# Altium footprint library IC_TPD4EUSB30DQAR.PcbLib: 1 footprints
Each footprint in its own frame and in the unit in brackets; x right, y up, seen from the top. Pads: shape width x height; smd on the part's side, far side on the other; paste and mask are expansions set on the pad; w line width, h text height; cw(c..) or ccw(c..) is an arc to the next point about the centre after c.
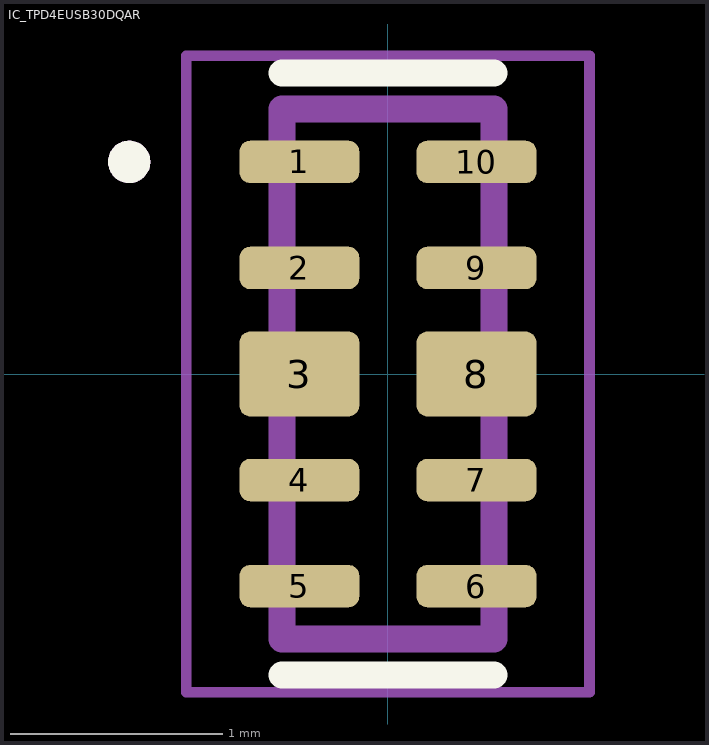
[diagram p0: the footprint, top view; thin cyan lines are the x and y axes]

## IC_TPD4EUSB30DQAR [mm]
pads (10):
  rrect50% 0.565x0.2 smd mask+0: 1(-0.417,1) 2(-0.417,0.5) 4(-0.417,-0.5) 5(-0.417,-1) 6(0.417,-1) 7(0.417,-0.5) 9(0.417,0.5) 10(0.417,1)
  rrect25% 0.565x0.4 smd paste-1 mask+0: 3(-0.417,0) 8(0.417,0)
Top Overlay:
  circle w0.1: c-1.22,1 r0.05
  lines w0.127: -0.5,-1.42 0.5,-1.42 ; -0.5,1.42 0.5,1.42
Top Paste:
  drawing of 2 lines, arcs and shapes, not listed
Top Solder:
  region: 0.77,-0.27 0.065,-0.27 0.065,0.27 0.77,0.27
  region: -0.065,-0.27 -0.77,-0.27 -0.77,0.27 -0.065,0.27
  region: 0.77,-1.17 0.065,-1.17 0.065,-0.83 0.77,-0.83
  region: 0.77,-0.67 0.065,-0.67 0.065,-0.33 0.77,-0.33
  region: 0.77,0.33 0.065,0.33 0.065,0.67 0.77,0.67
  region: 0.77,0.83 0.065,0.83 0.065,1.17 0.77,1.17
  region: -0.065,-1.17 -0.77,-1.17 -0.77,-0.83 -0.065,-0.83
  region: -0.065,-0.67 -0.77,-0.67 -0.77,-0.33 -0.065,-0.33
  region: -0.065,0.33 -0.77,0.33 -0.77,0.67 -0.065,0.67
  region: -0.065,0.83 -0.77,0.83 -0.77,1.17 -0.065,1.17
Mechanical 13:
  circle w0.1: c-1.22,1 r0.05
  lines w0.127: -0.5,-1.25 -0.5,1.25 0.5,1.25 0.5,-1.25 -0.5,-1.25
Mechanical 15:
  lines w0.05: -0.95,-1.5 -0.95,1.5 0.95,1.5 0.95,-1.5 -0.95,-1.5
3D body "TPD4EUSB30DQAR.STEP": height 0.55, standoff 0, extent -0.5,-1.25 0.5,1.25